# EAGLE library part DAC121 (library 31813 Neutron Readout PCB)
TI DAC121 Digital to Analog Converter
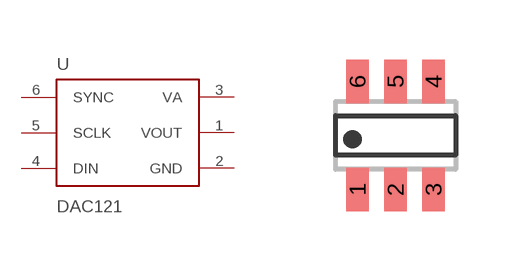
[diagram p18: symbol with the pads of SOT23-6; footprint SOT23-6]

Designator prefix U

## DAC121  [SOT23-6]
1  VOUT  out
2  GND  pwr
3  VA  pwr
4  DIN  in
5  SCLK  in
6  SYNC  in

## Footprint SOT23-6 (pad centres in mm)
smd 0.6 x 1.1: 1 -0.95,-1.35; 2 0,-1.35; 3 0.95,-1.35; 4 0.95,1.35; 5 0,1.35; 6 -0.95,1.35